# Altium footprint library SOP.PcbLib: 3 footprints
Each footprint in its own frame and in the unit in brackets; x right, y up, seen from the top. Pads: shape width x height; smd on the part's side, far side on the other; paste and mask are expansions set on the pad; w line width, h text height; cw(c..) or ccw(c..) is an arc to the next point about the centre after c.
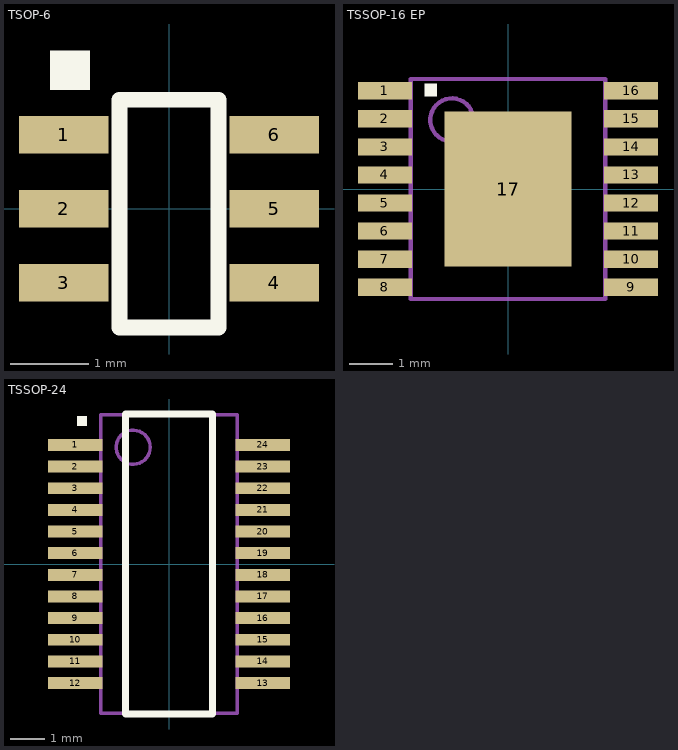
[diagram p0: the footprints below, top view; thin cyan lines are the x and y axes]

## TSOP-6 [mm] "SSOT-6 TSOP6"
height 1.1
pads (6):
  rect 1.15x0.48 smd mask+0.025: 1(-1.35,0.95) 2(-1.35,0) 3(-1.35,-0.95) 4(1.35,-0.95) 5(1.35,0) 6(1.35,0.95)
Top Overlay:
  rectangle: -1.524,1.524 -1.016,2.032
  lines w0.2: -0.635,-1.524 -0.635,1.397 0.635,1.397 0.635,-1.524 -0.635,-1.524
3D body: height 1.04, standoff -0.01, extent -1.375,-1.524 1.375,1.476

## TSSOP-16 EP [mm] "Linear Technology FE Package 16-Lead Plastic TSSOP 4.4x5.1 Exposed Pad (BC)"
height 1.1
pads (17):
  rect 1.25x0.4 smd mask+0.025: 1(-2.85,2.275) 2(-2.85,1.625) 3(-2.85,0.975) 4(-2.85,0.325) 5(-2.85,-0.325) 6(-2.85,-0.975) 7(-2.85,-1.625) 8(-2.85,-2.275) 9(2.85,-2.275) 10(2.85,-1.625) 11(2.85,-0.975) 12(2.85,-0.325) 13(2.85,0.325) 14(2.85,0.975) 15(2.85,1.625) 16(2.85,2.275)
  rect 2.94x3.58 smd paste-5: 17(0,0)
Top Overlay:
  rectangle: -1.94,2.141 -1.64,2.441
Top Paste:
  rectangle: -1.143,0.254 -0.254,1.524
  rectangle: 0.254,0.254 1.143,1.524
  rectangle: 0.254,-1.524 1.143,-0.254
  rectangle: -1.143,-1.524 -0.254,-0.254
Mechanical 13:
  circle w0.1: c-1.3,1.6 r0.5
  lines w0.1: -2.25,-2.55 -2.25,2.55 2.25,2.55 2.25,-2.55 -2.25,-2.55
3D body: height 1.05, standoff -0.05, extent -3.2,-2.56 3.2,2.54

## TSSOP-24 [mm] "TSSOP, 24-Leads, Body 8.8x4.0mm (max), Pitch 0.63mm"
height 1.75
pads (24):
  rect 1.6x0.35 smd mask+0.025: 1(-2.75,3.492) 2(-2.75,2.857) 3(-2.75,2.222) 4(-2.75,1.587) 5(-2.75,0.953) 6(-2.75,0.318) 7(-2.75,-0.318) 8(-2.75,-0.953) 9(-2.75,-1.587) 10(-2.75,-2.222) 11(-2.75,-2.857) 12(-2.75,-3.492) 13(2.75,-3.492) 14(2.75,-2.857) 15(2.75,-2.222) 16(2.75,-1.587) 17(2.75,-0.953) 18(2.75,-0.318) 19(2.75,0.318) 20(2.75,0.953) 21(2.75,1.587) 22(2.75,2.222) 23(2.75,2.857) 24(2.75,3.492)
Top Overlay:
  rectangle: -2.702,4.046 -2.402,4.346
  lines w0.2: -1.275,-4.4 -1.275,4.4 1.275,4.4 1.275,-4.4 -1.275,-4.4
Mechanical 13:
  circle w0.1: c-1.05,3.425 r0.5
  lines w0.1: -2,-4.375 -2,4.375 2,4.375 2,-4.375 -2,-4.375
3D body: height 1.75, standoff 0, extent -3.1,-4.375 3.1,4.375